# Altium schematic symbol library TC74AC04FN.SchLib: 1 symbol
Pins are listed as number, name and electrical type; pins without a type are passive.

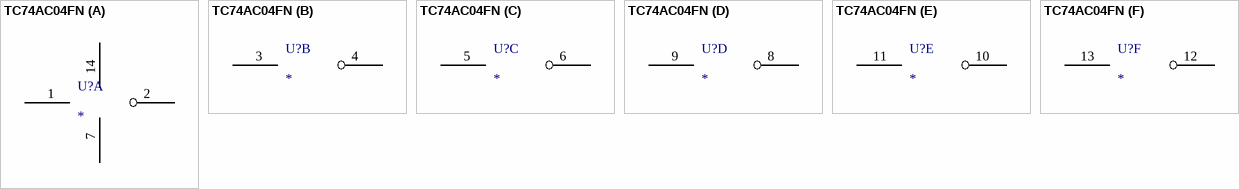
[diagram p0: symbol TC74AC04FN]

## TC74AC04FN
designator U?
part A pins: 1, 2, 7 GND (power), 14 VCC (power)
part B pins: 3, 4
part C pins: 5, 6
part D pins: 8, 9
part E pins: 10, 11
part F pins: 12, 13